# Altium footprint library CSD18543Q3AT.PcbLib: 1 footprints
Each footprint in its own frame and in the unit in brackets; x right, y up, seen from the top. Pads: shape width x height; smd on the part's side, far side on the other; paste and mask are expansions set on the pad; w line width, h text height; cw(c..) or ccw(c..) is an arc to the next point about the centre after c.
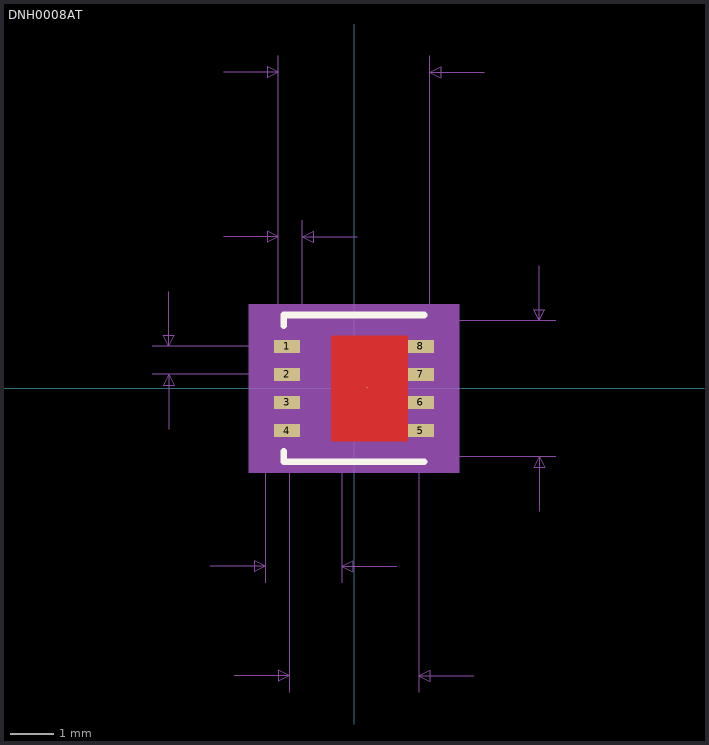
[diagram p0: the footprint, top view; thin cyan lines are the x and y axes]

## DNH0008AT [mm]
pads (9):
  rect 0.6x0.3 smd paste+0: 1(-1.55,0.975) 2(-1.55,0.325) 3(-1.55,-0.325) 4(-1.55,-0.975) 5(1.55,-0.975) 6(1.55,-0.325) 7(1.55,0.325) 8(1.55,0.975)
  rect 0.025x0.025 smd: 9(0.305,0.025)
Top Layer:
  region: 1.25,-1.225 1.25,1.225 -0.525,1.225 -0.525,-1.225
Top Overlay:
  lines w0.152: -1.627,-1.458 -1.627,-1.702 1.627,-1.702 ; -1.627,1.458 -1.627,1.702 1.627,1.702
Top Paste:
  region: -0.525,0.082 -0.525,1.225 0.186,1.225 0.186,0.082
  region: 0.38,0.082 0.38,1.225 1.091,1.225 1.091,0.082
  region: -0.525,-1.243 -0.525,-0.1 0.186,-0.1 0.186,-1.243
  region: 0.38,-1.243 0.38,-0.1 1.091,-0.1 1.091,-1.243
Top Solder:
  region: -1.25,1.125 -1.85,1.125 -1.85,0.825 -1.25,0.825
  region: -1.25,0.475 -1.85,0.475 -1.85,0.175 -1.25,0.175
  region: -1.25,-0.175 -1.85,-0.175 -1.85,-0.475 -1.25,-0.475
  region: -1.25,-0.825 -1.85,-0.825 -1.85,-1.125 -1.25,-1.125
  region: 1.85,-0.825 1.25,-0.825 1.25,-1.125 1.85,-1.125
  region: 1.85,-0.175 1.25,-0.175 1.25,-0.475 1.85,-0.475
  region: 1.85,0.475 1.25,0.475 1.25,0.175 1.85,0.175
  region: 1.85,1.125 1.25,1.125 1.25,0.825 1.85,0.825
  region: 1.25,-1.225 1.25,1.225 -0.525,1.225 -0.525,-1.225
Mechanical 5:
  region: 2.436,-1.956 -2.436,-1.956 -2.436,1.956 2.436,1.956
Mechanical 7:
  lines w0.025: -4.676,0.325 -1.755,0.325 ; -4.676,0.975 -1.755,0.975 ; -4.295,-0.945 -4.295,0.325 ; -4.295,2.245 -4.295,0.975 ; -3.325,-4.115 -2.055,-4.115 ; -3.02,3.515 -1.75,3.515 ; -3.02,7.325 -1.75,7.325 ; -2.77,-6.655 -1.5,-6.655 ; -2.055,-4.496 -2.055,-1.225 ; -1.75,3.896 -1.75,0.975 -1.75,7.706 ; -1.5,-7.036 -1.5,-1.575 ; -1.2,0.975 -1.2,3.896 ; -0.28,-4.496 -0.28,-1.225 ; 0.07,3.515 -1.2,3.515 ; 0.99,-4.115 -0.28,-4.115 ; 1.5,-7.036 1.5,-1.575 4.676,-1.575 ; 1.5,1.575 4.676,1.575 ; 1.75,0.975 1.75,7.706 ; 2.77,-6.655 1.5,-6.655 ; 3.02,7.325 1.75,7.325 ; 4.295,-2.845 4.295,-1.575 ; 4.295,2.845 4.295,1.575 ; -4.295,0.325 -4.422,0.071 -4.168,0.071 -4.295,0.325 ; -4.295,0.975 -4.422,1.229 -4.168,1.229 -4.295,0.975 ; -2.055,-4.115 -2.309,-3.988 -2.309,-4.242 -2.055,-4.115 ; -1.75,3.515 -2.004,3.642 -2.004,3.388 -1.75,3.515 ; -1.75,7.325 -2.004,7.452 -2.004,7.198 -1.75,7.325 ; -1.5,-6.655 -1.754,-6.528 -1.754,-6.782 -1.5,-6.655 ; -1.2,3.515 -0.946,3.642 -0.946,3.388 -1.2,3.515 ; -0.28,-4.115 -0.026,-3.988 -0.026,-4.242 -0.28,-4.115 ; 1.5,-6.655 1.754,-6.528 1.754,-6.782 1.5,-6.655 ; 1.75,7.325 2.004,7.452 2.004,7.198 1.75,7.325 ; 4.295,-1.575 4.168,-1.829 4.422,-1.829 4.295,-1.575 ; 4.295,1.575 4.168,1.829 4.422,1.829 4.295,1.575
  text "Default Padstyle: RX23p62Y11p81D0T" at -10.795,-11.1 h1.27
  text "Alt 1 Padstyle: OX60Y90D30P" at -8.572,-13.005 h1.27
  text "Alt 2 Padstyle: OX90Y60D30P" at -8.572,-14.91 h1.27
  text "0.138in/3.5mm" at -2.064,7.833 h0.64
  text "0.022in/0.55mm" at -3.698,4.023 h0.64
  text "0.026in/0.65mm" at -9.248,0.332 h0.64
  text "0.124in/3.15mm" at 4.803,-0.318 h0.64
  text "0.118in/3mm" at -1.746,-7.798 h0.64
  text "0.07in/1.775mm" at -3.39,-5.258 h0.64
Mechanical 13:
  circle w0: c-1.455,0.975 r0
  lines w0: -0.305,1.575 ccw(c0,1.575) 0.305,1.575
  lines w0.025: -1.5,-1.575 1.5,-1.575 1.5,1.575 -1.5,1.575 -1.5,-1.575
Mechanical 15:
  region: -1.754,-1.351 -2.309,-1.351 -2.309,1.351 -1.754,1.351 -1.754,1.829 1.754,1.829 1.754,1.351 2.309,1.351 2.309,-1.351 1.754,-1.351 1.754,-1.829 -1.754,-1.829
  lines w0.152: -2.309,-1.351 -2.309,1.351 -1.754,1.351 -1.754,1.829 1.754,1.829 1.754,1.351 2.309,1.351 2.309,-1.351 1.754,-1.351 1.754,-1.829 -1.754,-1.829 -1.754,-1.351 -2.309,-1.351
3D body: height 0.25, standoff 0, extent 0,0 0.254,0.254